# Altium schematic symbol library LTC4151HDD#PBF.SchLib: 1 symbol
Pins are listed as number, name and electrical type; pins without a type are passive.

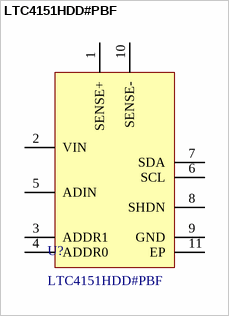
[diagram p0: symbol LTC4151HDD#PBF]

## LTC4151HDD#PBF
designator U?
Current & Power Monitors & Regulators 80V HIgh-Side Power Monitor with Shutdown
footprint LTC4151HDD#PBF
pins: 1 SENSE+, 2 VIN, 3 ADDR1, 4 ADDR0, 5 ADIN, 6 SCL, 7 SDA, 8 SHDN, 9 GND, 10 SENSE-, 11 EP